# Altium footprint library PCB - CONNECTOR - IRISO - IMSA-9890S-20Z924.PCBLIB: 1 footprints
Each footprint in its own frame and in the unit in brackets; x right, y up, seen from the top. Pads: shape width x height; smd on the part's side, far side on the other; paste and mask are expansions set on the pad; w line width, h text height; cw(c..) or ccw(c..) is an arc to the next point about the centre after c.
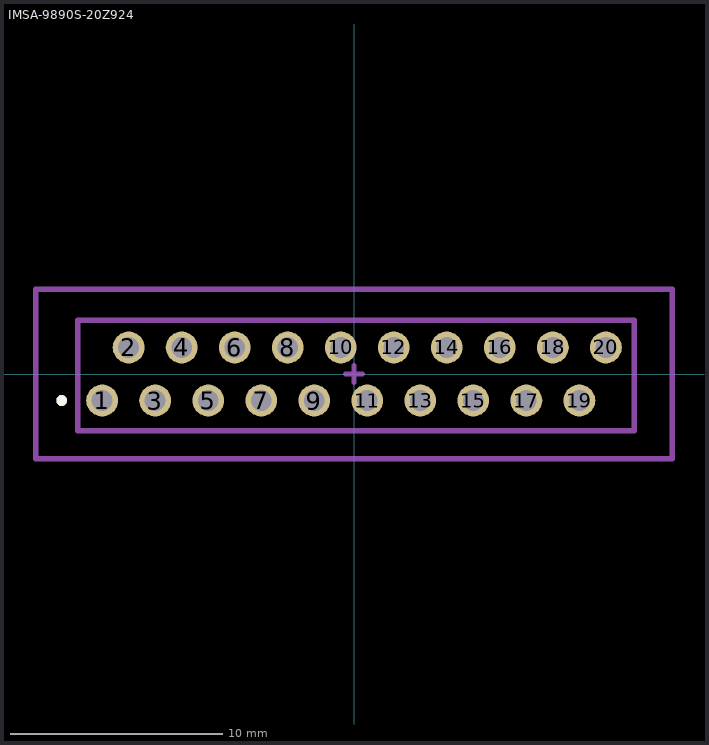
[diagram p0: the footprint, top view; thin cyan lines are the x and y axes]

## IMSA-9890S-20Z924 [mm]
pads (20):
  round 1.5 hole 0.98: 1(-11.875,-1.25) 2(-10.625,1.25) 3(-9.375,-1.25) 4(-8.125,1.25) 5(-6.875,-1.25) 6(-5.625,1.25) 7(-4.375,-1.25) 8(-3.125,1.25) 9(-1.875,-1.25) 10(-0.625,1.25) 11(0.625,-1.25) 12(1.875,1.25) 13(3.125,-1.25) 14(4.375,1.25) 15(5.625,-1.25) 16(6.875,1.25) 17(8.125,-1.25) 18(9.375,1.25) 19(10.625,-1.25) 20(11.875,1.25)
Top Overlay:
  circle w0.254: c-13.78,-1.25 r0.127
Top Solder:
  circle w0: c10.625,-1.25 r0.559
  circle w0: c8.125,-1.25 r0.559
  circle w0: c3.125,-1.25 r0.559
  circle w0: c-1.875,-1.25 r0.559
  circle w0: c5.625,-1.25 r0.559
  circle w0: c0.625,-1.25 r0.559
  circle w0: c11.875,1.25 r0.559
  circle w0: c4.375,1.25 r0.559
  circle w0: c6.875,1.25 r0.559
  circle w0: c9.375,1.25 r0.559
  circle w0: c1.875,1.25 r0.559
  circle w0: c-0.625,1.25 r0.559
  circle w0: c-3.125,1.25 r0.559
  circle w0: c-4.375,-1.25 r0.559
  circle w0: c-5.625,1.25 r0.559
  circle w0: c-6.875,-1.25 r0.559
  circle w0: c-8.125,1.25 r0.559
  circle w0: c-9.375,-1.25 r0.559
  circle w0: c-10.625,1.25 r0.559
  circle w0: c-11.875,-1.25 r0.559
Bottom Solder:
  circle w0: c10.625,-1.25 r0.559
  circle w0: c8.125,-1.25 r0.559
  circle w0: c3.125,-1.25 r0.559
  circle w0: c-1.875,-1.25 r0.559
  circle w0: c5.625,-1.25 r0.559
  circle w0: c0.625,-1.25 r0.559
  circle w0: c11.875,1.25 r0.559
  circle w0: c4.375,1.25 r0.559
  circle w0: c6.875,1.25 r0.559
  circle w0: c9.375,1.25 r0.559
  circle w0: c1.875,1.25 r0.559
  circle w0: c-0.625,1.25 r0.559
  circle w0: c-3.125,1.25 r0.559
  circle w0: c-4.375,-1.25 r0.559
  circle w0: c-5.625,1.25 r0.559
  circle w0: c-6.875,-1.25 r0.559
  circle w0: c-8.125,1.25 r0.559
  circle w0: c-9.375,-1.25 r0.559
  circle w0: c-10.625,1.25 r0.559
  circle w0: c-11.875,-1.25 r0.559
Top Assembly:
  circle w0.254: c-13.78,-1.25 r0.127
  lines w0.254: -13.018,-2.667 -13.018,2.54 13.208,2.54 13.208,-2.667 -13.018,-2.667
Top Courtyard:
  lines w0.254: -15,-4 15,-4 15,4 -15,4 -15,-4
  text "90" at 44.005,1.417 h1.57
  text "2" at -12.002,1.417 h1.57
Top Designator:
  text ".Designator" at -12.954,5.715 h1
Top Component Center:
  lines w0.254: -0.381,0 0,0 ; 0,-0.381 0,0.381 0,0 ; 0.381,0 0,0
Top Value (Mech13):
  text ".Comment" at -12.954,4.318 h1
3D body "9890S-20K.STEP": height 6.02, standoff -3.48, extent -14.351,-3 14.399,3